# EAGLE library part TPS795* (library OSSI)
TPS795xx ULTRALOW-NOISE, HIGH-PSRR, FAST, RF, 500-mA LOW-DROPOUT LINEAR REGULATORS
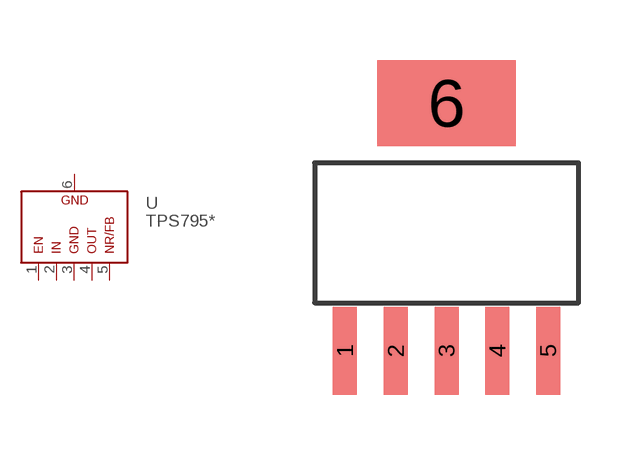
[diagram p53: symbol with the pads of SOT223-6; footprint SOT223-6]

Designator prefix U

## TPS79501  [SOT223-6]
1  P$1  in
2  P$2  pwr
3  P$3  pwr
4  P$4  pwr
5  P$5  in
6  P$6  pwr

## Footprint SOT223-6 (pad centres in mm)
smd 0.6 x 2.2: 1 -2.54,0; 2 -1.27,0; 3 0,0; 4 1.27,0; 5 2.54,0
smd 3.45 x 2.15: 6 0,6.2